# EAGLE library part MKL04Z32VLC4 (library PatternAgents-NXP)
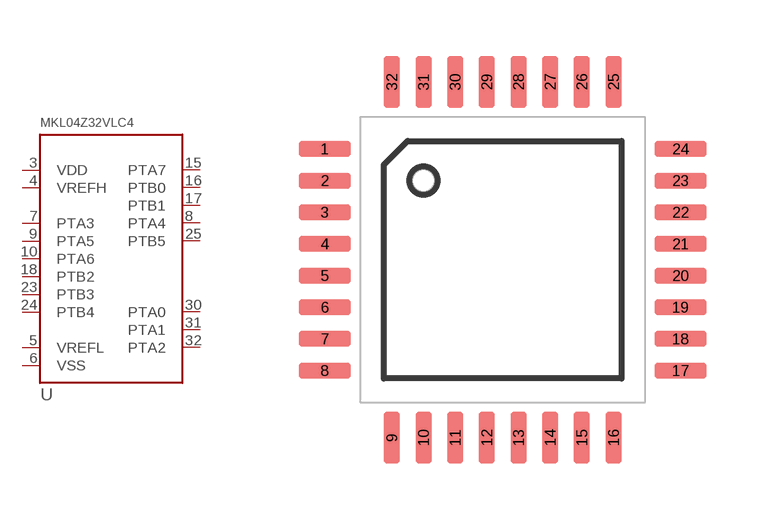
[diagram p10: symbol with the pads of LQFP32-08; footprint LQFP32-08]

Designator prefix U

## MKL04Z32VLC4 (DESC: MKL04Z32VLC4 (preprogrammed); MF: PJRC; MPN: IC_MKL04Z32_TQFP32; PACKAGE: LQFP-32; TYPE: Microcontroller)  [LQFP32-08]
3  VDD
4  VREFH
5  VREFL
6  VSS
7  PTA3
8  PTA4
9  PTA5
10  PTA6
15  PTA7
16  PTB0
17  PTB1
18  PTB2
23  PTB3
24  PTB4
25  PTB5
30  PTA0
31  PTA1
32  PTA2

## Footprint LQFP32-08 (pad centres in mm)
Thin Plasic Quad Flat Package Grid 0.8 mm
smd 1.3 x 0.4: 1 -4.493,2.8; 2 -4.493,2; 3 -4.493,1.2; 4 -4.493,0.4; 5 -4.493,-0.4; 6 -4.493,-1.2; 7 -4.493,-2; 8 -4.493,-2.8; 17 4.493,-2.8; 18 4.493,-2; 19 4.493,-1.2; 20 4.493,-0.4; 21 4.493,0.4; 22 4.493,1.2; 23 4.493,2; 24 4.493,2.8
smd 0.4 x 1.3: 9 -2.8,-4.493; 10 -2,-4.493; 11 -1.2,-4.493; 12 -0.4,-4.493; 13 0.4,-4.493; 14 1.2,-4.493; 15 2,-4.493; 16 2.8,-4.493; 25 2.8,4.493; 26 2,4.493; 27 1.2,4.493; 28 0.4,4.493; 29 -0.4,4.493; 30 -1.2,4.493; 31 -2,4.493; 32 -2.8,4.493